# Altium footprint library PcbLib_uInverter.PcbLib: 17 footprints (part 1 of 2)
Each footprint in its own frame and in the unit in brackets; x right, y up, seen from the top. Pads: shape width x height; smd on the part's side, far side on the other; paste and mask are expansions set on the pad; w line width, h text height; cw(c..) or ccw(c..) is an arc to the next point about the centre after c.
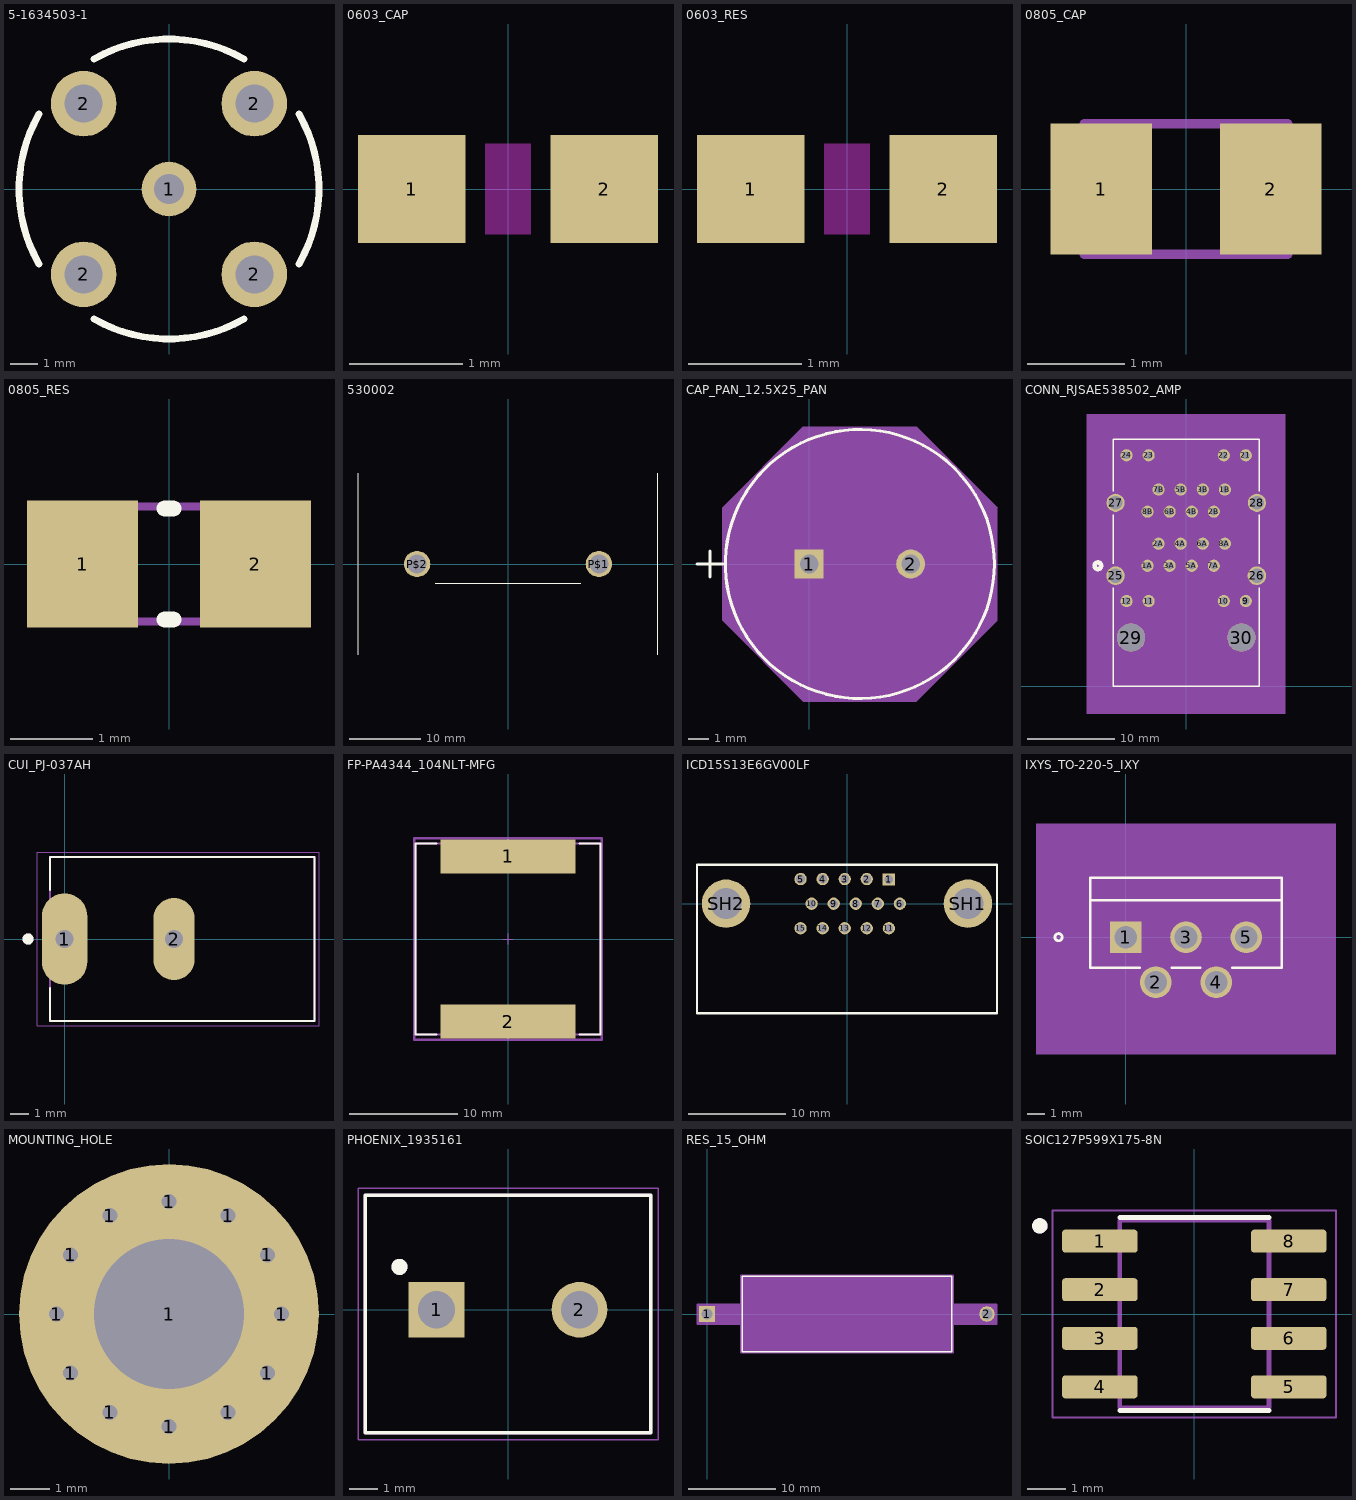
[diagram p0: the footprints below, top view; thin cyan lines are the x and y axes]

## 5-1634503-1 [mm] "CONN BNC JACK STR 50 OHM PCB"
height 13.7
pads (5):
  round 2 hole 1.1: 1(0,0)
  round 2.4 hole 1.4: 2(-3.13,-3.13) 2(-3.13,3.13) 2(3.13,-3.13) 2(3.13,3.13)
Top Overlay:
  lines w0.254: -4.763,-2.75 cw(c0,0) -4.763,2.75 ; -2.75,-4.763 ccw(c0,0) 2.75,-4.763 ; -2.75,4.763 cw(c0,0) 2.75,4.763 ; 4.763,-2.75 ccw(c0,0) 4.763,2.75
3D body "c-5-1634503-1-d-3d.stp": height 13.7, standoff -4.9, extent -5.5,-5.51 5.5,5.51

## 0603_CAP [mm]
pads (2):
  rect 0.95x0.95 smd: 1(-0.85,0) 2(0.85,0)
Top Layer keep-out:
  region: -0.2,0.4 0.2,0.4 0.2,-0.4 -0.2,-0.4
3D body "0603cap.step": height 0.79, standoff -0.01, extent -0.8,-0.4 0.8,0.4

## 0603_RES [mm]
pads (2):
  rect 0.95x0.95 smd: 1(-0.85,0) 2(0.85,0)
Top Layer keep-out:
  region: -0.2,0.4 0.2,0.4 0.2,-0.4 -0.2,-0.4
3D body "0603res.step": height 0.44, standoff -0.02, extent -0.8,-0.4 0.8,0.4

## 0805_CAP [mm] "Chip Cap, SMD 0805"
height 0.85
pads (2):
  rect 1.05x1.35 smd: 1(-0.875,0) 2(0.875,0)
Mechanical 13:
  lines w0.1: -1.05,-0.675 1.05,-0.675 1.05,0.675 -1.05,0.675 -1.05,-0.675
3D body "RESC2012X08N.step": height 0.85, standoff 0, extent -1.05,-0.675 1.05,0.675

## 0805_RES [mm] "Chip Resistor, SMD 0805"
height 0.85
pads (2):
  rect 1.35x1.55 smd: 1(-1.05,0) 2(1.05,0)
Top Overlay:
  lines w0.2: -0.05,-0.675 0.05,-0.675 ; -0.05,0.675 0.05,0.675
Mechanical 13:
  lines w0.1: -1.1,-0.7 1.1,-0.7 1.1,0.7 -1.1,0.7 -1.1,-0.7
3D body "0805_RES.step": height 0.85, standoff 0, extent -1.1,-0.7 1.1,0.7

## 530002 [mil]
pads (2):
  round 145 hole 105: P$1(500,0) P$2(-500,0)
Top Overlay:
  lines w5: -825,-500 -825,500 ; -400,-105 400,-105 ; 825,-500 825,500
3D body "530002B02500G.STEP": height 1500, standoff -156, extent -825,-500 825,500

## CAP_PAN_12.5X25_PAN [mil]
pads (2):
  rect 56x56 hole 36 mask+0: 1(0,0)
  round 56 hole 36 mask+0: 2(197,0)
Top Overlay:
  circle w6: c98.5,0 r261
  lines w6: -217.5,0 -167.5,0 ; -192.5,-25 -192.5,25
Mechanical 13:
  circle w0: c98.5,0 r256
  lines w1: -217.5,0 -167.5,0 ; -192.5,-25 -192.5,25
Mechanical 15:
  region: -167.5,109.53 -11.03,266 208.03,266 364.5,109.53 364.5,-109.53 208.03,-266 -11.03,-266 -167.5,-109.53
  lines w1: -167.5,-109.53 -167.5,109.53 -11.03,266 208.03,266 364.5,109.53 364.5,-109.53 208.03,-266 -11.03,-266 -167.5,-109.53
3D body: height 10, standoff 0, extent 0,0 10,10
3D body "CAP_PAN_12_5X25_PAN.step": height 1063.62, standoff -177.99, extent -157.55,-255.83 354.51,255.85

## CONN_RJSAE538502_AMP [mil]
pads (30):
  round 55 hole 35: 1A(-175,545) 1B(175,890) 2A(-125,645) 2B(125,790) 3A(-75,545) 3B(75,890) 4A(-25,645) 4B(25,790) 5A(25,545) 5B(-25,890) 6A(75,645) 6B(-75,790) 7A(125,545) 7B(-125,890) 8A(175,645) 8B(-175,790) 9(270,385) 10(170,385) 11(-170,385) 12(-270,385) 21(270,1045) 22(170,1045) 23(-170,1045) 24(-270,1045)
  round 84 hole 64: 25(-320,500) 26(320,500)
  round 82 hole 62: 27(-320,830) 28(320,830)
  round 128 hole 128 unplated: 29(-250,220) 30(250,220)
Top Overlay:
  circle w20: c-400,545 r15
  lines w6: -330,445.81 -330,0 330,0 330,445.81 ; -330,554.18 -330,776.83 ; -330,883.17 -330,1118 330,1118 330,883.17 ; 330,554.18 330,776.83
Bottom Overlay:
  circle w20: c-400,545 r15
Mechanical 1:
  lines w10: 5,1187 379,1187
Mechanical 5:
  region: -451,1232 449,1232 449,-126 -451,-126
Mechanical 13:
  circle w20: c-175,470 r15
  lines w1: -325,5 -325,1113 325,1113 325,5 -325,5
3D body: height 10, standoff 0, extent -175,545 -165,555
3D body "M-RJSAE-X38X-02-REVT1.STEP": height 1066.81, standoff -153.58, extent -385.99,-19.07 388,1122.01

## CUI_PJ-037AH [mm]
pads (2):
  oval 2.5x5 hole 1 square: 1(0,0)
  oval 2.25x4.5 hole 1 square: 2(6,0)
Top Overlay:
  circle w0.3: c-2,0 r0.15
  lines w0.127: -0.8,-2.7 -0.8,-4.5 13.7,-4.5 13.7,4.5 -0.8,4.5 -0.8,2.7
Mechanical 13:
  circle w0.3: c-2,0 r0.15
  lines w0.127: -0.8,-4.5 -0.8,4.5 13.7,4.5 13.7,-4.5 -0.8,-4.5
Mechanical 15:
  lines w0.05: -1.5,-4.75 -1.5,4.75 13.95,4.75 13.95,-4.75 -1.5,-4.75
3D body "PJ-037AH--3DModel-STEP-56544.STEP": height 11.5, standoff -3, extent -0.773,-4.428 13.727,4.572

## FP-PA4344_104NLT-MFG [mm]
pads (2):
  rect 12.5x3.15 smd paste+0 mask+0: 1(0,7.675) 2(0,-7.675)
Top Overlay:
  lines w0.2: -6.625,-8.85 -8.6,-8.85 -8.6,8.85 -6.625,8.85 ; 6.625,-8.85 8.6,-8.85 8.6,8.85 6.625,8.85
Mechanical 5:
  lines w0.2: -8.7,-9.35 8.7,-9.35 8.7,9.35 -8.7,9.35 -8.7,-9.35
  text ".Designator" at 0,0.188 h1
Mechanical 13:
  lines w0.2: -8.6,-8.85 8.6,-8.85 8.6,8.85 -8.6,8.85 -8.6,-8.85
Mechanical 15:
  lines w0.2: -8.7,-9.35 8.7,-9.35 8.7,9.35 -8.7,9.35 -8.7,-9.35
Mechanical 16:
  lines w0.1: -0.5,0 0.5,0 ; 0,-0.5 0,0.5
3D body "Ind_Pulse_Electronics_PA4344_104NLT_eec.STEP": height 0.25, standoff 0, extent -8.827,-8.334 8.573,10.366

## ICD15S13E6GV00LF [mm] "CONN DSUB HD RCPT 15POS R/A SLDR"
pads (17):
  rect 1.27x1.27 hole 0.9: 1(4.305,2.5)
  round 1.27 hole 0.9: 2(2.045,2.54) 3(-0.235,2.54) 4(-2.515,2.54) 5(-4.795,2.54) 6(5.465,0) 7(3.185,0) 8(0.905,0) 9(-1.375,0) 10(-3.655,0) 11(4.325,-2.54) 12(2.045,-2.54) 13(-0.235,-2.54) 14(-2.515,-2.54) 15(-4.795,-2.54)
  round 5 hole 3.2: SH1(12.495,0) SH2(-12.495,0)
Top Overlay:
  lines w0.254: -15.5,-11.3 -15.5,4 15.5,4 15.5,-11.3 -15.5,-11.3
3D body "Sicd15s13e6gv00lf.stp": height 12.55, standoff -3.2, extent -15.449,-17.55 15.551,4.08

## IXYS_TO-220-5_IXY [mil]
pads (5):
  rect 70x70 hole 50 mask+0: 1(0,0)
  round 70 hole 50 mask+0: 2(66.93,-100) 3(133.86,0) 4(200.79,-100) 5(267.72,0)
Top Overlay:
  circle w6: c-148.64,0 r8
  lines w6: -73.64,82 341.36,82 ; 31.02,-68 -78.64,-68 -78.64,132 346.36,132 346.36,-68 236.7,-68 ; 102.84,-68 164.88,-68
Mechanical 5:
  region: -198.64,252 466.36,252 466.36,-260 -198.64,-260
Mechanical 13:
  circle w0: c-63.64,-53 r8
  lines w1: -73.64,77 341.36,77 ; -73.64,-63 -73.64,127 341.36,127 341.36,-63 -73.64,-63
  text "TAB" at 115.11,89.5 h25
Mechanical 15:
  region: 351.36,137 -83.64,137 -83.64,-145 351.36,-145
  lines w6: -83.64,-145 351.36,-145 351.36,137 -83.64,137 -83.64,-145
3D body: height 10, standoff 0, extent 0,0 10,10
3D body "IXYS_TO-220-5_IXY.step": height 836.54, standoff -43.46, extent -73.62,-120 341.38,127.01

## MOUNTING_HOLE [mil]
pads (13):
  round 30 hole 15: 1(-112.5,0) 1(-98.43,-59.06) 1(-98.43,59.06) 1(-59.06,-98.43) 1(-59.06,98.43) 1(0,-112.5) 1(0,112.5) 1(59.06,-98.43) 1(59.06,98.43) 1(98.43,-59.06) 1(98.43,59.06) 1(112.5,0)
  round 300 hole 150: 1(0,0)

## PHOENIX_1935161 [mm]
pads (2):
  rect 1.95x1.95 hole 1.3: 1(-2.5,0)
  round 1.95 hole 1.3: 2(2.5,0)
Top Overlay:
  circle w0.28: c-3.8,1.5 r0.14
  lines w0.127: -5,-4.3 -5,4 5,4 5,-4.3 -5,-4.3
Mechanical 13:
  circle w0.28: c-3.8,1.5 r0.14
  lines w0.127: -5,-4.3 5,-4.3 5,4 -5,4 -5,-4.3
Mechanical 15:
  lines w0.05: -5.25,-4.55 -5.25,4.25 5.25,4.25 5.25,-4.55 -5.25,-4.55
3D body "1935161--3DModel-STEP-56544.STEP": height 11.45, standoff -3.45, extent -5,-5 5.4,4

## RES_15_OHM [mil]
pads (2):
  rect 70x70 hole 50 mask+0: 1(0,0)
  round 70 hole 50 mask+0: 2(1260,0)
Top Overlay:
  lines w6: 157.5,-170 1102.5,-170 1102.5,170 157.5,170 157.5,-170
Mechanical 13:
  lines w1: 0,0 162.5,0 ; 1097.5,0 1260,0 ; 162.5,-165 1097.5,-165 1097.5,165 162.5,165 162.5,-165
Mechanical 15:
  region: 152.5,-45 -45,-45 -45,45 152.5,45 152.5,175 1107.5,175 1107.5,45 1305,45 1305,-45 1107.5,-45 1107.5,-175 152.5,-175
  lines w6: -45,-45 -45,45 152.5,45 152.5,175 1107.5,175 1107.5,45 1305,45 1305,-45 1107.5,-45 1107.5,-175 152.5,-175 152.5,-45 -45,-45
3D body: height 10, standoff 0, extent 0,0 10,10
3D body "RES_15_OHM.step": height 330, standoff -110, extent -20,-164.83 1280,164.84

## SOIC127P599X175-8N [mm]
pads (8):
  rrect25% 1.97x0.6 smd: 1(-2.47,1.905) 2(-2.47,0.635) 3(-2.47,-0.635) 4(-2.47,-1.905) 5(2.47,-1.905) 6(2.47,-0.635) 7(2.47,0.635) 8(2.47,1.905)
Top Overlay:
  circle w0.2: c-4.04,2.305 r0.1
  lines w0.127: -1.95,-2.525 1.95,-2.525 ; -1.95,2.525 1.95,2.525
Mechanical 13:
  circle w0.2: c-4.04,2.305 r0.1
  lines w0.127: -1.95,-2.452 -1.95,2.452 1.95,2.452 1.95,-2.452 -1.95,-2.452
Mechanical 15:
  lines w0.05: -3.705,-2.702 -3.705,2.702 3.705,2.702 3.705,-2.702 -3.705,-2.702
3D body "INA143U.STEP": height 1.75, standoff 0, extent -2.997,-2.451 2.997,2.451